# Altium schematic symbol library TestPin.Schlib: 1 symbol
Pins are listed as number, name and electrical type; pins without a type are passive.

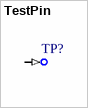
[diagram p0: symbol TestPin]

## TestPin
designator TP?  (no BOM)
pins: 1 (in)